# EAGLE library part RELAIS-MEDER_DIP12-1C90-51L (library 1A-meinLib)
DIL-Relais, Umschalter DIP-Serie, MEDER
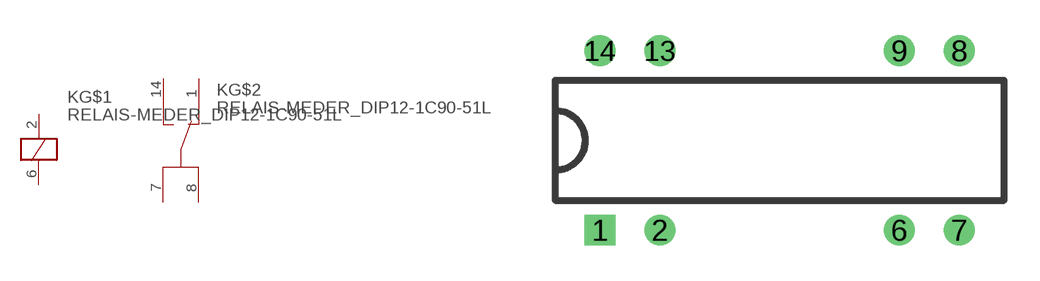
[diagram p110: symbol with the pads of RELEAIS-DIL-MEDER-C; footprint RELEAIS-DIL-MEDER-C]

Designator prefix K; gates G$1=RELAIS-SPULE G$2=RELAIS-UMSCHALTER-2COM

## RELAIS-MEDER_DIP12-1C90-51L  [RELEAIS-DIL-MEDER-C]
1  G$2:NC
2  G$1:A1  pas
6  G$1:A2  pas
7  G$2:COM1
8  G$2:COM2
14  G$2:NO

## Footprint RELEAIS-DIL-MEDER-C (pad centres in mm)
drill 0.8 square: 1 -7.62,-3.81
drill 0.8 round: 2 -5.08,-3.81; 6 5.08,-3.81; 7 7.62,-3.81; 8 7.62,3.81; 9 5.08,3.81; 13 -5.08,3.81; 14 -7.62,3.81